# EAGLE library part OLED0.66 (library GeekAmmo)
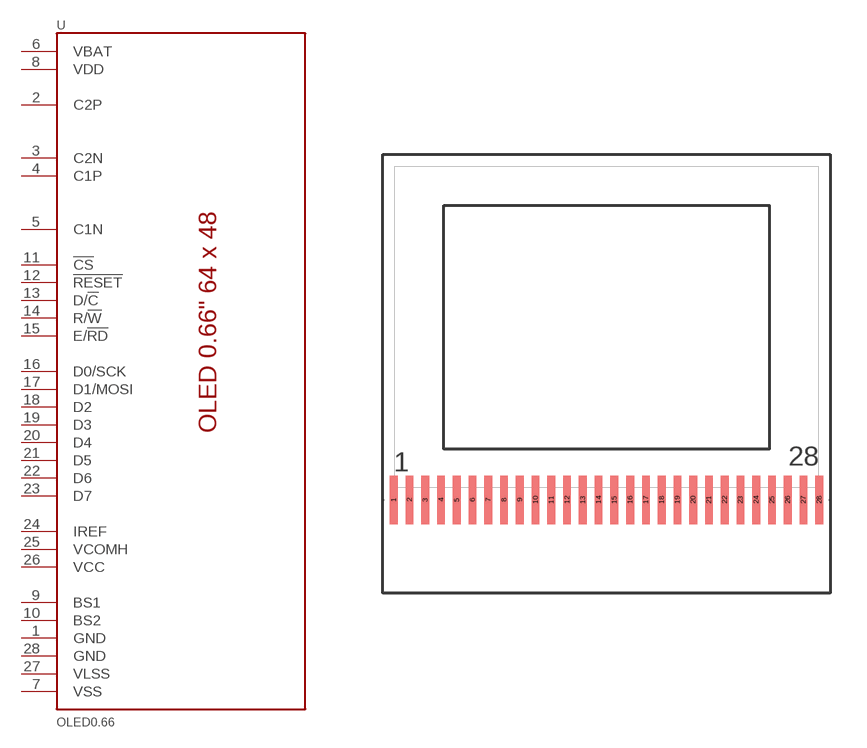
[diagram p10: symbol with the pads of FPC-28-0.65; footprint FPC-28-0.65]

Designator prefix -

## OLED0.66  [FPC-28-0.65]
1  GND
2  C2P
3  C2N
4  C1P
5  C1N
6  VBAT
7  VSS
8  VDD
9  BS1
10  BS2
11  !CS!
12  !RESET!
13  D/!C!
14  R/!W!
15  E/!RD!
16  D0/SCK
17  D1/MOSI
18  D2
19  D3
20  D4
21  D5
22  D6
23  D7
24  IREF
25  VCOMH
26  VCC
27  VLSS
28  GND

## Footprint FPC-28-0.65 (pad centres in mm)
28 PIN FPC 0.65 mm pitch Custom aligned for OLED0.66 64x48
smd 0.32 x 2: 1 -10.16,0; 2 -9.51,0; 3 -8.86,0; 4 -8.21,0; 5 -7.56,0; 6 -6.91,0; 7 -6.26,0; 8 -5.61,0; 9 -4.96,0; 10 -4.31,0; 11 -3.66,0; 12 -3.01,0; 13 -2.36,0; 14 -1.71,0; 15 -1.06,0; 16 -0.41,0; 17 0.24,0; 18 0.89,0; 19 1.54,0; 20 2.19,0; 21 2.84,0; 22 3.49,0; 23 4.14,0; 24 4.79,0; 25 5.44,0; 26 6.09,0; 27 6.74,0; 28 7.39,0